# Altium integrated library CONNECTORS - LEMO.IntLib: 18 symbols
Pins are listed as number, name and electrical type; pins without a type are passive.

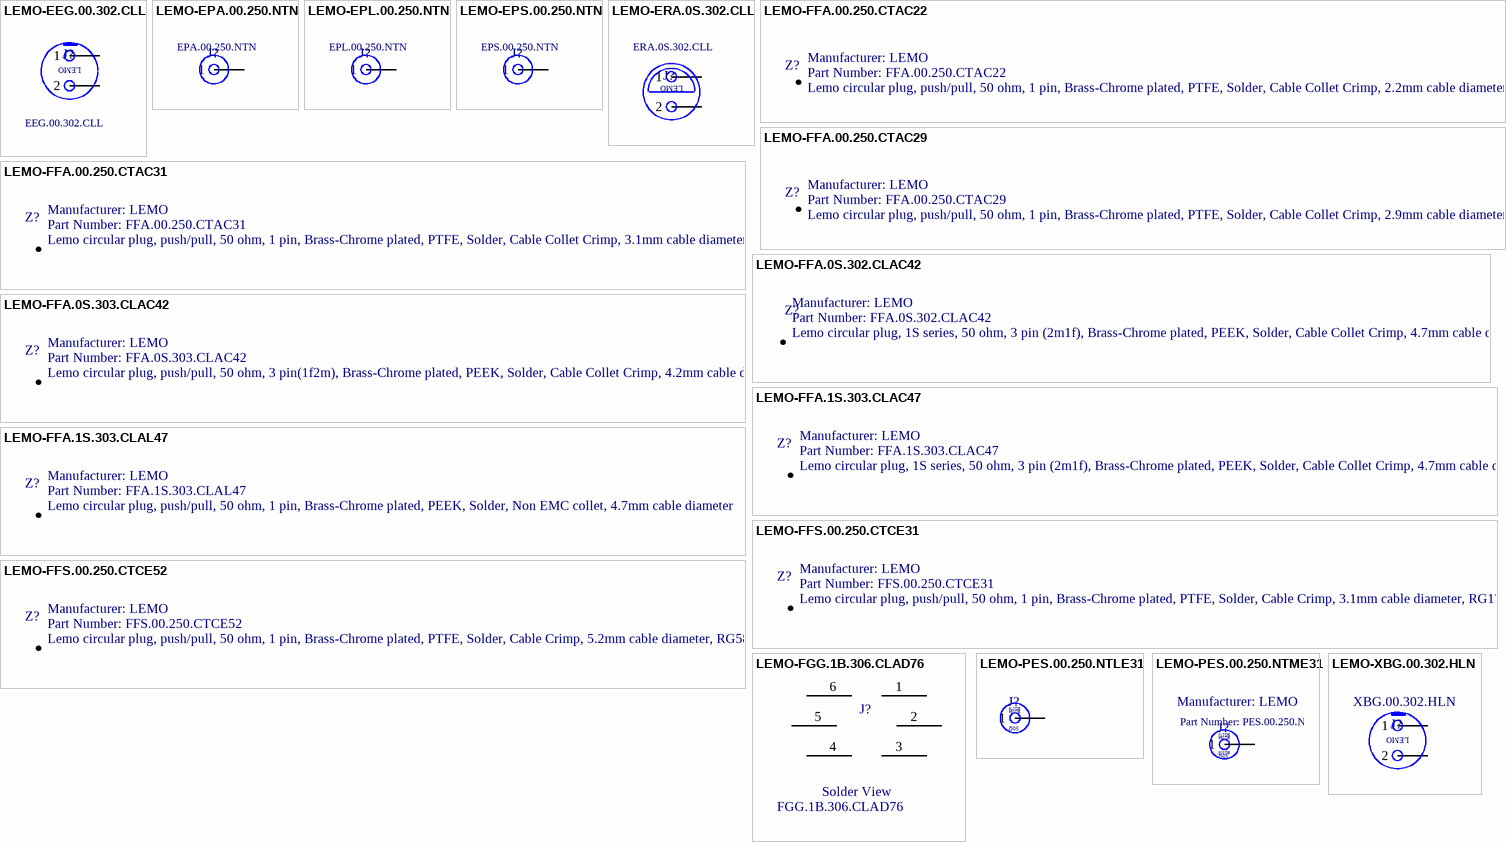
[diagram p0: symbols LEMO-EEG.00.302.CLL to LEMO-XBG.00.302.HLN]

## LEMO-EEG.00.302.CLL
designator J?, comment EEG.00.302.CLL
Lemo circular socket push/pull, 2 pin, Panel Mount, 'G' Keyed; Mates with (Wire housing): FGG.00.302.CLAD35; Mates with (PCB): N/A; Mounting Type: Panel Mount; PackageDescription: 8mm diameter, Circular Connector, Solder cup, 2 pin, Panel mount, polarized, receptacle.; Package Reference: N/A; Pins: 2; Pitch: N/A; Rows: N/A; ComponentLink1URL: \\canopus\EDA\Datasheets\Interconnects\LEMO\unipole_multipole.pdf; ComponentLink1Description: Datasheet; Supplier 1: Newark; Supplier Part Number 1: 73R1741; Supplier 2: Digi-Key; Supplier Part Number 2: 1124-1004-ND; Supplier 3: Mouser; Supplier Part Number 3: 736-EEG00302CLL; Manufacturer: LEMO; Part Number: EEG.00.302.CLL
footprint LEMO-EEG-1S1T (8mm diameter, Circular Connector, Solder cup, 2 pin, Panel mount, polarized, receptacle.)
footprint LEMO-EEG-1T1S (8mm diameter, Circular Connector, Solder cup, 2 pin, Panel mount, polarized, receptacle.)
footprint LEMO-EEG-2S (8mm diameter, Circular Connector, Solder cup, 2 pin, Panel mount, non-polarized, receptacle.)
footprint LEMO-EEG-2T (8mm diameter, Circular Connector, Solder cup, 2 pin, Panel mount, Non-polarized, receptacle.)
pins: 1, 2

## LEMO-EPA.00.250.NTN
designator J?, comment EPA.00.250.NTN
Lemo circular socket, 50 ohm, 1 pin, Through hole, Vertical, Non Threaded; Mates with (Wire housing): FFX.00.250 Series straight plugs; Mates with (PCB): N/A; Mounting Type: Through Hole; PackageDescription: Circular LEMO, Vertical, 1 pin, Non threaded; Package Reference: 7.1mm diameter, Circular Connector, through hole, 1 pin, Vertical; Pins: 1; Pitch: N/A; Rows: N/A; ComponentLink1URL: \\canopus\EDA\Datasheets\Interconnects\LEMO\00and01Coaxial_en.pdf; ComponentLink1Description: Datasheet; Supplier 1: Mouser; Supplier Part Number 1: 736-EPA00250DTN; Supplier 2: Digi-Key; Supplier Part Number 2: 1124-1421-ND; Manufacturer: LEMO; Part Number: EPA.00.250.NTN
footprint LEMO-EPE_1S (7.1mm diameter, Circular Connector, through hole, 1 pin, Vertical)
3D model epa_00_250_ntn (PCB3D Model)
pins: 0 hidden to GND, 1

## LEMO-EPL.00.250.NTN
designator J?, comment EPL.00.250.NTN
Lemo circular socket, 50 ohm, 1 pin, Through hole, right angle, Non Threaded; Mates with (Wire housing): FFX.00.250 Series straight plugs; Mates with (PCB): N/A; Mounting Type: Through Hole; PackageDescription: Circular LEMO, Right angle, 1 pin, Non Threaded; Package Reference: LEMO-EPS-1RA; Pins: 1; Pitch: N/A; Rows: N/A; ComponentLink1URL: \\canopus\EDA\Datasheets\Interconnects\LEMO\00and01Coaxial_en.pdf; ComponentLink1Description: Datasheet; Supplier 1: Mouser; Supplier Part Number 1: 736-EPL00250NTN; Supplier 2: Newark; Supplier Part Number 2: 25R7486; Supplier 3: Digi-Key; Supplier Part Number 3: 1124-1008-ND; Manufacturer: LEMO; Part Number: EPL.00.250.NTN
footprint LEMO-EPS-1RA (7.1mm diameter, Circular Connector, through hole, 1 pin, Right Angle)
3D model epl_00_250_ntn (PCB3D Model)
pins: 0 hidden to GND, 1

## LEMO-EPS.00.250.NTN
designator J?, comment EPS.00.250.NTN
Lemo circular socket, 50 ohm, 1 pin, Through hole, right angle; Mates with (Wire housing): FFX.00.250 Series straight plugs; Mates with (PCB): N/A; Mounting Type: Through Hole; PackageDescription: Circular LEMO, Right angle, 1 pin; Package Reference: LEMO-EPS-1RA; Pins: 1; Pitch: N/A; Rows: N/A; ComponentLink1URL: \\canopus\EDA\Datasheets\Interconnects\LEMO\00and01Coaxial_en.pdf; ComponentLink1Description: Datasheet; Supplier 1: Mouser; Supplier Part Number 1: 736-EPS00250NTN; Supplier 2: Digi-Key; Supplier Part Number 2: 1124-1357-ND; Manufacturer: LEMO; Part Number: EPS.00.250.NTN
footprint LEMO-EPS-1RA (7.1mm diameter, Circular Connector, through hole, 1 pin, Right Angle)
3D model epl_00_250_ntn (PCB3D Model)
pins: 0 hidden to GND, 1

## LEMO-ERA.0S.302.CLL
designator J?, comment ERA.0S.302.CLL
Lemo circular socket, 2 pin, Panel Mount, Polarized; Mates with (Wire housing): FFA.0S.302.CLAC42; Mates with (PCB): N/A; Mounting Type: Panel Mount; PackageDescription: 8mm diameter, Circular Connector, Solder cup, 2 pin, Panel mount, polarized, receptacle.; Package Reference: N/A; Pins: 2; Pitch: N/A; Rows: N/A; ComponentLink1URL: \\canopus\EDA\Datasheets\Interconnects\LEMO\unipole_multipole.pdf; ComponentLink1Description: Datasheet; Supplier 1: Mouser; Supplier Part Number 1: 736-ERA0S302CLL; Supplier 2: Newark; Supplier Part Number 2: 57R5202; Supplier 3: Digi-Key; Supplier Part Number 3: 1124-1233-ND; Manufacturer: LEMO; Part Number: ERA.0S.302.CLL
footprint LEMO-ERA-2S (8mm diameter, Circular Connector, Solder cup, 2 pin, Panel mount, polarized, receptacle.)
footprint LEMO-ERA-2T (8mm diameter, Circular Connector, Solder cup, 2 pin, Panel mount, polarized, receptacle.)
footprint LEMO-ERA-1T1S (8mm diameter, Circular Connector, Solder cup, 2 pin, Panel mount, polarized, receptacle.)
footprint LEMO-ERA-1S1T (8mm diameter, Circular Connector, Solder cup, 2 pin, Panel mount, polarized, receptacle.)
pins: 1, 2

## LEMO-FFA.00.250.CTAC22
designator Z?, comment Manufacturer: LEMO  (hidden comment: FFA.00.250.CTAC22)  (mechanical)
Lemo circular plug, push/pull, 50 ohm, 1 pin, Brass-Chrome plated, PTFE, Solder, Cable Collet Crimp, 2.2mm cable diameter; Mates with (PCB): FXX.00.250 series sockets, EXX.00.250 series sockets, PXX.00.250 series sockets; Mates with (Wire housing): PXX.00.250 series free hanging sockets; Mounting Type: Wire; PackageDescription: Cable connector; Package Reference: N/A; Pins: 1; Pitch: N/A; Rows: N/A; ComponentLink1URL: \\canopus\EDA\Datasheets\Interconnects\LEMO\00and01Coaxial_en.pdf; ComponentLink1Description: Datasheet; Supplier 1: Newark; Supplier Part Number 1: 75R5793; Supplier 2: Digi-Key; Supplier Part Number 2: FFA.00.250.CTAC22-ND; Supplier 3: Mouser; Supplier Part Number 3: 736-FFA00250CTAC22; Part Number: FFA.00.250.CTAC22
text: .

## LEMO-FFA.00.250.CTAC29
designator Z?, comment Manufacturer: LEMO  (hidden comment: FFA.00.250.CTAC29)  (mechanical)
Lemo circular plug, push/pull, 50 ohm, 1 pin, Brass-Chrome plated, PTFE, Solder, Cable Collet Crimp, 2.9mm cable diameter; Mates with (PCB): FXX.00.250 series sockets, EXX.00.250 series sockets, PXX.00.250 series sockets; Mates with (Wire housing): PXX.00.250 series free hanging sockets; Mounting Type: Wire; PackageDescription: Cable connector; Package Reference: N/A; Pins: 1; Pitch: N/A; Rows: N/A; ComponentLink1URL: \\canopus\EDA\Datasheets\Interconnects\LEMO\00and01Coaxial_en.pdf; ComponentLink1Description: Datasheet; Supplier 1: Mouser; Supplier Part Number 1: 736-FFA00250CTAC29; Supplier 2: Digi-Key; Supplier Part Number 2: 1124-1376-ND; Supplier 3: Newark; Supplier Part Number 3: 15R9118; Part Number: FFA.00.250.CTAC29
text: .

## LEMO-FFA.00.250.CTAC31
designator Z?, comment Manufacturer: LEMO  (hidden comment: FFA.00.250.CTAC31)  (mechanical)
Lemo circular plug, push/pull, 50 ohm, 1 pin, Brass-Chrome plated, PTFE, Solder, Cable Collet Crimp, 3.1mm cable diameter; Mates with (PCB): FXX.00.250 series sockets, EXX.00.250 series sockets, PXX.00.250 series sockets; Mates with (Wire housing): PXX.00.250 series free hanging sockets; Mounting Type: Wire; PackageDescription: Cable connector; Package Reference: N/A; Pins: 1; Pitch: N/A; Rows: N/A; ComponentLink1URL: \\canopus\EDA\Datasheets\Interconnects\LEMO\00and01Coaxial_en.pdf; ComponentLink1Description: Datasheet; Supplier 1: Newark; Supplier Part Number 1: 68R6601; Supplier 2: Mouser; Supplier Part Number 2: 736-FFA00250CTAC31; Supplier 3: Digi-Key; Supplier Part Number 3: FFA.00.250.CTAC31-ND; Part Number: FFA.00.250.CTAC31
text: .

## LEMO-FFA.0S.302.CLAC42
designator Z?, comment Manufacturer: LEMO  (hidden comment: FFA.0S.302.CLAC42)  (mechanical)
Lemo circular plug, 1S series, 50 ohm, 3 pin (2m1f), Brass-Chrome plated, PEEK, Solder, Cable Collet Crimp, 4.7mm cable diameter; Mates with (PCB): FXX.0S.302 series sockets, EXX.0S.302 series sockets, Pxx.0S.302 series sockets; Mates with (Wire housing): PXX.0S.302 series free hanging sockets; Mounting Type: Wire; PackageDescription: Cable connector; Package Reference: N/A; Pins: 2; Pitch: N/A; Rows: N/A; ComponentLink1URL: \\canopus\EDA\Datasheets\Interconnects\LEMO\unipole_multipole.pdf; ComponentLink1Description: Datasheet; Supplier 1: Mouser; Supplier Part Number 1: 736-FFA0S302CLAC42; Supplier 2: Digi-Key; Supplier Part Number 2: 1124-1244-ND; Supplier 3: Newark; Supplier Part Number 3: 63R3294; Part Number: FFA.0S.302.CLAC42
text: .

## LEMO-FFA.0S.303.CLAC42
designator Z?, comment Manufacturer: LEMO  (hidden comment: FFA.0S.303.CLAC42)  (mechanical)
Lemo circular plug, push/pull, 50 ohm, 3 pin(1f2m), Brass-Chrome plated, PEEK, Solder, Cable Collet Crimp, 4.2mm cable diameter; Mates with (PCB): FXX-0S.303 series sockets, EXX-0S.303 series sockets, PXX-0S.303 series sockets; Mates with (Wire housing): PXX-0S.303 series free hanging sockets; Mounting Type: Wire; PackageDescription: Cable connector; Package Reference: N/A; Pins: 3; Pitch: N/A; Rows: N/A; ComponentLink1URL: \\canopus\EDA\Datasheets\Interconnects\LEMO\unipole_multipole.pdf; ComponentLink1Description: Datasheet; Supplier 1: Newark; Supplier Part Number 1: 64T0025; Supplier 2: Mouser; Supplier Part Number 2: 736-FFA0S303CLAC42; Supplier 3: Digi-Key; Supplier Part Number 3: FFA.0S.303.CLAC42-ND; Part Number: FFA.0S.303.CLAC42
text: .

## LEMO-FFA.1S.303.CLAC47
designator Z?, comment Manufacturer: LEMO  (hidden comment: FFA.1S.303.CLAC47)  (mechanical)
Lemo circular plug, 1S series, 50 ohm, 3 pin (2m1f), Brass-Chrome plated, PEEK, Solder, Cable Collet Crimp, 4.7mm cable diameter; Mates with (PCB): FXX.1S.303 series sockets, EXX.1S.303 series sockets, Pxx.1S.303 series sockets; Mates with (Wire housing): PXX.1S.303 series free hanging sockets; Mounting Type: Wire; PackageDescription: Cable connector; Package Reference: N/A; Pins: 3; Pitch: N/A; Rows: N/A; ComponentLink1URL: \\canopus\EDA\Datasheets\Interconnects\LEMO\unipole_multipole.pdf; ComponentLink1Description: Datasheet; Supplier 1: Mouser; Supplier Part Number 1: 736-FFA1S303CLAC47; Supplier 2: Newark; Supplier Part Number 2: 38T2175; Supplier 3: Digi-Key; Supplier Part Number 3: FFA.1S.303.CLAC47-ND; Part Number: FFA.1S.303.CLAC47
text: .

## LEMO-FFA.1S.303.CLAL47
designator Z?, comment Manufacturer: LEMO  (hidden comment: FFA.1S.303.CLAL47)  (mechanical)
Lemo circular plug, push/pull, 50 ohm, 1 pin, Brass-Chrome plated, PEEK, Solder, Non EMC collet, 4.7mm cable diameter; Mates with (PCB): FXX.1S.303 series sockets, EXX.1S.303 series sockets, PXX.1S.303 series sockets; Mates with (Wire housing): PXX.1S.303 series free hanging sockets; Mounting Type: Wire; PackageDescription: Cable connector; Package Reference: N/A; Pins: 1; Pitch: N/A; Rows: N/A; ComponentLink1URL: \\canopus\EDA\Datasheets\Interconnects\LEMO\unipole_multipole.pdf; ComponentLink1Description: Datasheet; Supplier 1: Mouser; Supplier Part Number 1: 736-FFA1S303CLAL47; Supplier 2: Newark; Supplier Part Number 2: 03X7235; Supplier 3: Digi-Key; Supplier Part Number 3: FFA.1S.303.CLAL47-ND; Part Number: FFA.1S.303.CLAL47
text: .

## LEMO-FFS.00.250.CTCE31
designator Z?, comment Manufacturer: LEMO  (hidden comment: FFS.00.250.CTCE31)  (mechanical)
Lemo circular plug, push/pull, 50 ohm, 1 pin, Brass-Chrome plated, PTFE, Solder, Cable Crimp, 3.1mm cable diameter, RG174; Mates with (PCB): FXX.00.250 series sockets, EXX.00.250 series sockets, PXX.00.250 series sockets; Mates with (Wire housing): PXX.00.250 series free hanging sockets; Mounting Type: Wire; PackageDescription: Cable connector; Package Reference: N/A; Pins: 1; Pitch: N/A; Rows: N/A; ComponentLink1URL: \\canopus\EDA\Datasheets\Interconnects\LEMO\00and01Coaxial_en.pdf; ComponentLink1Description: Datasheet; Supplier 1: Digi-Key; Supplier Part Number 1: FFS.00.250.CTCE31-ND; Supplier 2: Mouser; Supplier Part Number 2: 736-FFS00250CTCE31; Part Number: FFS.00.250.CTCE31
text: .

## LEMO-FFS.00.250.CTCE52
designator Z?, comment Manufacturer: LEMO  (hidden comment: FFS.00.250.CTCE52)  (mechanical)
Lemo circular plug, push/pull, 50 ohm, 1 pin, Brass-Chrome plated, PTFE, Solder, Cable Crimp, 5.2mm cable diameter, RG58; Mates with (PCB): FXX.00.250 series sockets, EXX.00.250 series sockets, PXX.00.250 series sockets; Mates with (Wire housing): PXX.00.250 series free hanging sockets; Mounting Type: Wire; PackageDescription: Cable connector; Package Reference: N/A; Pins: 1; Pitch: N/A; Rows: N/A; ComponentLink1URL: \\canopus\EDA\Datasheets\Interconnects\LEMO\00and01Coaxial_en.pdf; ComponentLink1Description: Datasheet; Supplier 1: Mouser; Supplier Part Number 1: 736-FFS00250CTCE52; Supplier 2: Digi-Key; Supplier Part Number 2: FFS.00.250.CTCE52-ND; Part Number: FFS.00.250.CTCE52
text: .

## LEMO-FGG.1B.306.CLAD76
designator J?, comment FGG.1B.306.CLAD76
LEMO circular plug, inline, 6pin, soldercup; Mates with (Wire housing): ECG.1B.306, EXG.1B.306, EGG.1B.306, EYG.1B.306; Moutning Type: Free-hanging; Current Rating: 7A; PackageDescription: *; Package Reference: LEMO-FGG; Pins: 6; Shell Size - Insert: 306; Termination: Solder Cup; Fastening Type: Push-Pull, Detent Lock; Orientation: G; Shell Material: Brass, Chrome Plated; Contact Finish: Gold; Series: 1B; ComponentLink1Description: Datasheet; ComponentLink1URL: \\canopus\EDA\Datasheets\Interconnects\LEMO\00and01Coaxial_en.pdf; Supplier 1: Newark; Supplier Part Number 1: 12R0796; Supplier 2: Digi-Key; Supplier Part Number 2: FGG.1B.306.CLAD76-ND; Supplier 3: Mouser; Supplier Part Number 3: 736-FGG1B306CLAD76; Manufacturer: LEMO; Part Number: FGG.1B.306.CLAD76
pins: 1, 2, 3, 4, 5, 6
text: Solder View

## LEMO-PES.00.250.NTLE31
designator J?, comment PES.00.250.NTLE31  (value not drawn)
Lemo circular socket, push/pull, 50 ohm, RG178, RG196, 1 pin, Panel Mount, front nut.; Mates with (Wire housing): FFX.00.250 Series straight plugs; Mates with (PCB): N/A; Mounting Type: Panel; PackageDescription: 8mm diameter, Circular Connector,  2 pin, Panel mount, Non-polarized, receptacle.; Package Reference: LEMO-PES; Pins: 1; Pitch: N/A; Rows: N/A; ComponentLink1URL: \\canopus\EDA\Datasheets\Interconnects\LEMO\00and01Coaxial_en.pdf; ComponentLink1Description: Datasheet; Supplier 1: Mouser; Supplier Part Number 1: 736-PES00250NTLE31; Supplier 2: Newark; Supplier Part Number 2: 85W7910; Supplier 3: Digi-Key; Supplier Part Number 3: PES.00.250.NTLE31-ND; Manufacturer: LEMO; Part Number: PES.00.250.NTLE31
footprint LEMO-PES (8mm diameter, Circular Connector,  2 pin, Panel mount, Non-polarized, receptacle.)
pins: 0 hidden to GND, 1
text: RG178; RG196; 50Ω

## LEMO-PES.00.250.NTME31
designator J?, comment Manufacturer: LEMO  (hidden comment: PES.00.250.NTME31)
Lemo circular socket, push/pull, 50 ohm, RG174, RG188, RG316, 1 pin, Panel Mount, front nut.; Mates with (Wire housing): FFX.00.250 Series straight plugs; Mates with (PCB): N/A; Mounting Type: Panel; PackageDescription: 8mm diameter, Circular Connector,  2 pin, Panel mount, Non-polarized, receptacle.; Package Reference: LEMO-PES; Pins: 1; Pitch: N/A; Rows: N/A; ComponentLink1URL: \\canopus\EDA\Datasheets\Interconnects\LEMO\00and01Coaxial_en.pdf; ComponentLink1Description: Datasheet; Supplier 1: Mouser; Supplier Part Number 1: 736-PES00250NTME31; Supplier 2: Digi-Key; Supplier Part Number 2: PES.00.250.NTME31-ND; Part Number: PES.00.250.NTME31
footprint LEMO-PES (8mm diameter, Circular Connector,  2 pin, Panel mount, Non-polarized, receptacle.)
pins: 0 hidden to GND, 1
text: RG174; RG188; 50Ω; RG316

## LEMO-XBG.00.302.HLN
designator J?, comment XBG.00.302.HLN
Lemo circular socket,2 pin 'G' keyed, Right Angle, PCB Mount; Mates with (Wire housing): FGG.00.302.CLAD35; Mates with (PCB): N/A; Mounting Type: Right Angle; PackageDescription: 7.1mm diameter, Circular Connector, through hole, 2 pin, Right Angle; Package Reference: LEMO-XBG; Pins: 2; Pitch: N/A; Rows: N/A; ComponentLink1URL: \\canopus\EDA\Datasheets\Interconnects\LEMO\unipole_multipole.pdf; ComponentLink1Description: Datasheet; Supplier 1: Mouser; Supplier Part Number 1: 736-XBG00302HLN; Supplier 2: Digi-Key; Supplier Part Number 2: XBG.00.302.HLN-ND; Manufacturer: LEMO; Part Number: XBG.00.302.HLN
footprint LEMO-XBG (7.1mm diameter, Circular Connector, through hole, 2 pin, Right Angle)
pins: 0 hidden to GND, 1, 2